# Altium footprint library DemoSchlib.PcbLib: 59 footprints (part 2 of 4)
Each footprint in its own frame and in the unit in brackets; x right, y up, seen from the top. Pads: shape width x height; smd on the part's side, far side on the other; paste and mask are expansions set on the pad; w line width, h text height; cw(c..) or ccw(c..) is an arc to the next point about the centre after c.
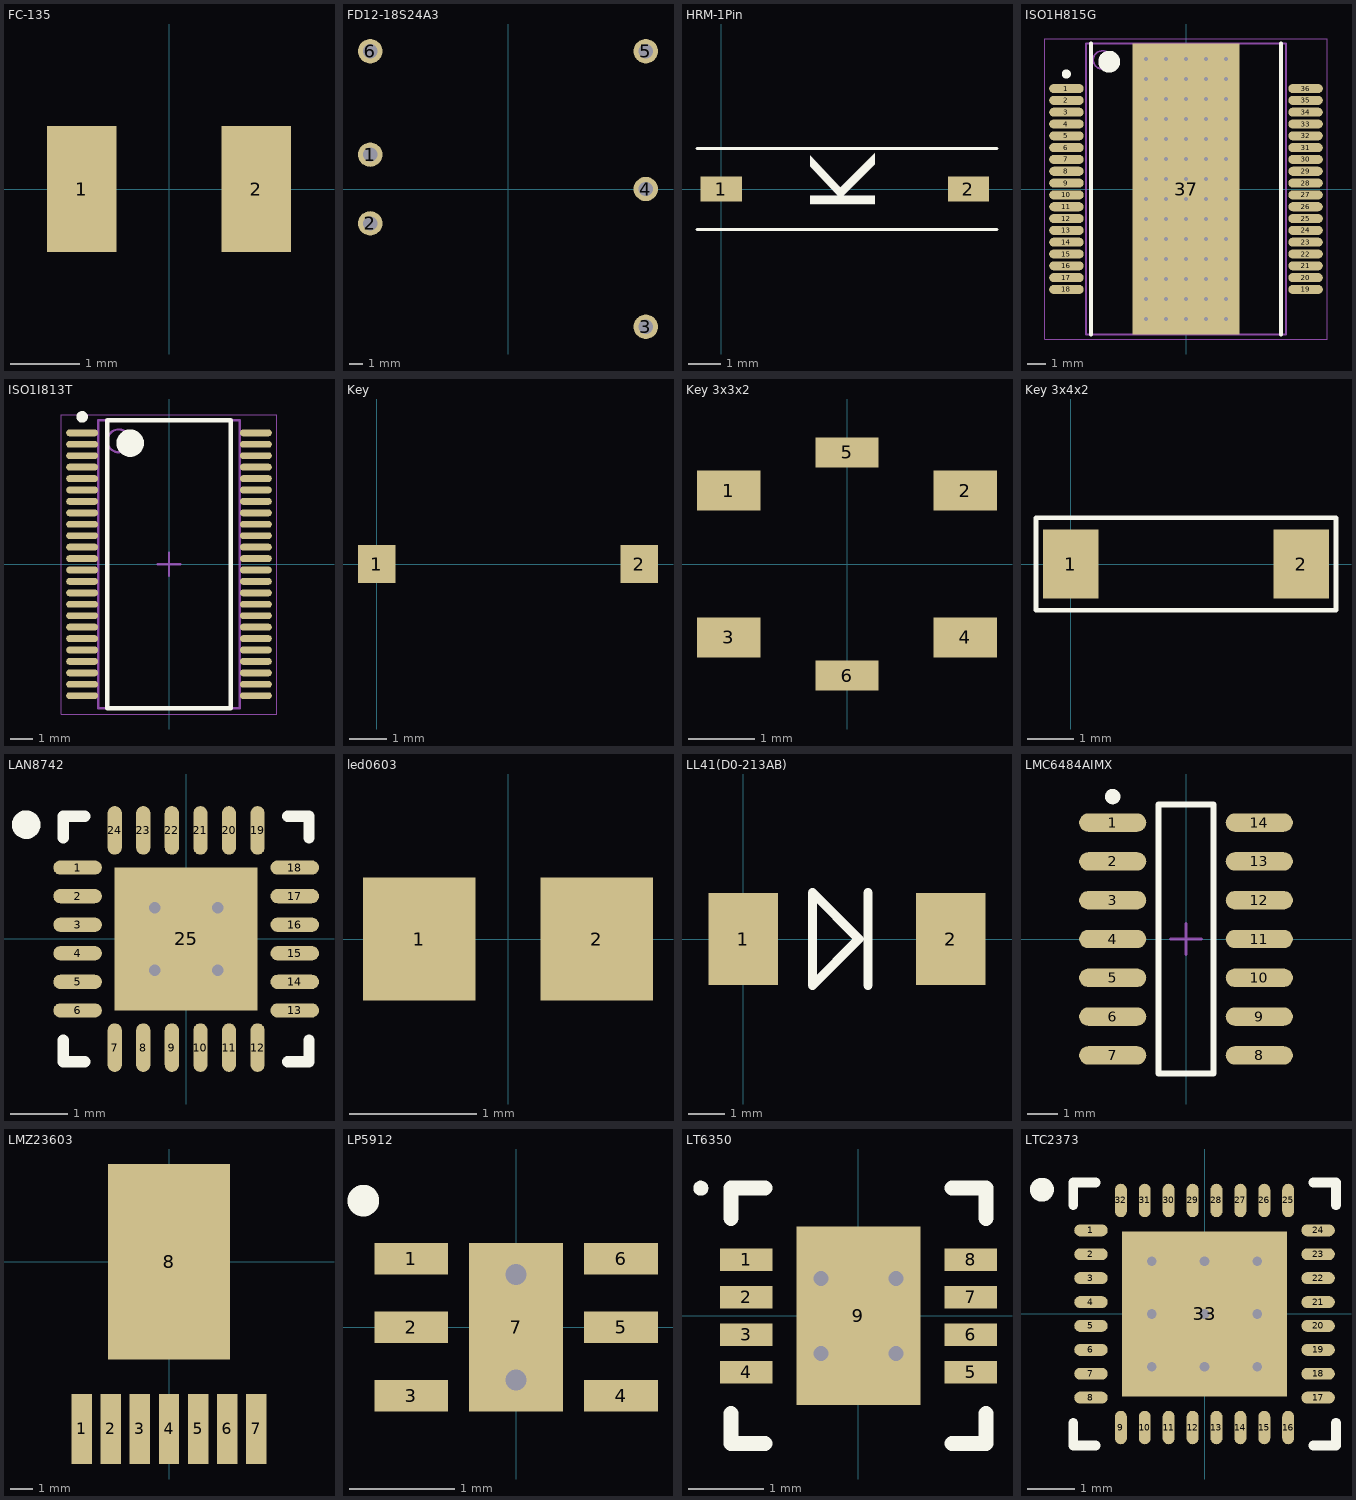
[diagram p1: the footprints below, top view; thin cyan lines are the x and y axes]

## FC-135 [mm]
pads (2):
  rect 1x1.8 smd: 1(-1.25,0) 2(1.25,0)
3D body "FC-135.STEP": height 0.8, standoff 0, extent -1.6,-0.75 1.6,0.75

## FD12-18S24A3 [mm] "DC-DC"
pads (6):
  round 1.8 hole 1.05: 1(-10.16,2.54) 2(-10.16,-2.54) 3(10.16,-10.16) 4(10.16,0) 5(10.16,10.16) 6(-10.16,10.16)
3D body: height 11, standoff 0, extent -12.7,-12.696 12.7,12.697

## HRM-1Pin [mm] "贴片拨码开关1pin"
pads (2):
  rect 1.27x0.76 smd: 1(0,0) 2(7.62,0)
Top Overlay:
  lines w0.1: -0.75,-1.25 8.5,-1.25 ; -0.75,1.25 8.5,1.25
  text "K" at 4.75,-0.75 h2

## ISO1H815G [mm]
pads (37):
  oval 1.9x0.5 smd: 1(-6.575,5.525) 2(-6.575,4.875) 3(-6.575,4.225) 4(-6.575,3.575) 5(-6.575,2.925) 6(-6.575,2.275) 7(-6.575,1.625) 8(-6.575,0.975) 9(-6.575,0.325) 10(-6.575,-0.325) 11(-6.575,-0.975) 12(-6.575,-1.625) 13(-6.575,-2.275) 14(-6.575,-2.925) 15(-6.575,-3.575) 16(-6.575,-4.225) 17(-6.575,-4.875) 18(-6.575,-5.525) 19(6.575,-5.525) 20(6.575,-4.875) 21(6.575,-4.225) 22(6.575,-3.575) 23(6.575,-2.925) 24(6.575,-2.275) 25(6.575,-1.625) 26(6.575,-0.975) 27(6.575,-0.325) 28(6.575,0.325) 29(6.575,0.975) 30(6.575,1.625) 31(6.575,2.275) 32(6.575,2.925) 33(6.575,3.575) 34(6.575,4.225) 35(6.575,4.875) 36(6.575,5.525)
  rect 5.9x16 smd: 37(0,0)
via -2.2,7.15 diameter 0.5 hole 0.2
via -1.1,7.15 diameter 0.5 hole 0.2
via 0,7.15 diameter 0.5 hole 0.2
via 1.1,7.15 diameter 0.5 hole 0.2
via 2.2,7.15 diameter 0.5 hole 0.2
via -2.2,6.05 diameter 0.5 hole 0.2
via -1.1,6.05 diameter 0.5 hole 0.2
via 0,6.05 diameter 0.5 hole 0.2
via 1.1,6.05 diameter 0.5 hole 0.2
via 2.2,6.05 diameter 0.5 hole 0.2
via -2.2,4.95 diameter 0.5 hole 0.2
via -1.1,4.95 diameter 0.5 hole 0.2
via 0,4.95 diameter 0.5 hole 0.2
via 1.1,4.95 diameter 0.5 hole 0.2
via 2.2,4.95 diameter 0.5 hole 0.2
via -2.2,3.85 diameter 0.5 hole 0.2
via -1.1,3.85 diameter 0.5 hole 0.2
via 0,3.85 diameter 0.5 hole 0.2
via 1.1,3.85 diameter 0.5 hole 0.2
via 2.2,3.85 diameter 0.5 hole 0.2
via -2.2,2.75 diameter 0.5 hole 0.2
via -1.1,2.75 diameter 0.5 hole 0.2
via 0,2.75 diameter 0.5 hole 0.2
via 1.1,2.75 diameter 0.5 hole 0.2
via 2.2,2.75 diameter 0.5 hole 0.2
via -2.2,1.65 diameter 0.5 hole 0.2
via -1.1,1.65 diameter 0.5 hole 0.2
via 0,1.65 diameter 0.5 hole 0.2
via 1.1,1.65 diameter 0.5 hole 0.2
via 2.2,1.65 diameter 0.5 hole 0.2
via -2.2,0.55 diameter 0.5 hole 0.2
via -1.1,0.55 diameter 0.5 hole 0.2
via 0,0.55 diameter 0.5 hole 0.2
via 1.1,0.55 diameter 0.5 hole 0.2
via 2.2,0.55 diameter 0.5 hole 0.2
via -2.2,-0.55 diameter 0.5 hole 0.2
via -1.1,-0.55 diameter 0.5 hole 0.2
via 0,-0.55 diameter 0.5 hole 0.2
via 1.1,-0.55 diameter 0.5 hole 0.2
via 2.2,-0.55 diameter 0.5 hole 0.2
via -2.2,-1.65 diameter 0.5 hole 0.2
via -1.1,-1.65 diameter 0.5 hole 0.2
via 0,-1.65 diameter 0.5 hole 0.2
via 1.1,-1.65 diameter 0.5 hole 0.2
via 2.2,-1.65 diameter 0.5 hole 0.2
via -2.2,-2.75 diameter 0.5 hole 0.2
via -1.1,-2.75 diameter 0.5 hole 0.2
via 0,-2.75 diameter 0.5 hole 0.2
via 1.1,-2.75 diameter 0.5 hole 0.2
via 2.2,-2.75 diameter 0.5 hole 0.2
via -2.2,-3.85 diameter 0.5 hole 0.2
via -1.1,-3.85 diameter 0.5 hole 0.2
via 0,-3.85 diameter 0.5 hole 0.2
via 1.1,-3.85 diameter 0.5 hole 0.2
via 2.2,-3.85 diameter 0.5 hole 0.2
via -2.2,-4.95 diameter 0.5 hole 0.2
via -1.1,-4.95 diameter 0.5 hole 0.2
via 0,-4.95 diameter 0.5 hole 0.2
via 1.1,-4.95 diameter 0.5 hole 0.2
via 2.2,-4.95 diameter 0.5 hole 0.2
via -2.2,-6.05 diameter 0.5 hole 0.2
via -1.1,-6.05 diameter 0.5 hole 0.2
via 0,-6.05 diameter 0.5 hole 0.2
via 1.1,-6.05 diameter 0.5 hole 0.2
via 2.2,-6.05 diameter 0.5 hole 0.2
via -2.2,-7.15 diameter 0.5 hole 0.2
via -1.1,-7.15 diameter 0.5 hole 0.2
via 0,-7.15 diameter 0.5 hole 0.2
via 1.1,-7.15 diameter 0.5 hole 0.2
via 2.2,-7.15 diameter 0.5 hole 0.2
Top Overlay:
  circle w0.25: c-6.575,6.325 r0.125
  circle w0.6: c-4.225,7 r0.3
  lines w0.2: -5.225,-8 -5.225,8 ; 5.225,-8 5.225,8
Mechanical 13:
  circle w0.1: c-4.6,7.1 r0.5
  lines w0.1: -5.5,-8 -5.5,8 5.5,8 5.5,-8 -5.5,-8
Mechanical 15:
  lines w0.05: -7.775,-8.25 -7.775,8.25 7.775,8.25 7.775,-8.25 -7.775,-8.25
  lines w0.1: -0.5,0 0.5,0 ; 0,-0.5 0,0.5
3D body "SOP65P1420X350_HS-37N.step": height 3.5, standoff 0, extent -7.1,-8 7.1,8

## ISO1I813T [mm]
pads (48):
  oval 1.4x0.3 smd: 1(-3.8,5.75) 2(-3.8,5.25) 3(-3.8,4.75) 4(-3.8,4.25) 5(-3.8,3.75) 6(-3.8,3.25) 7(-3.8,2.75) 8(-3.8,2.25) 9(-3.8,1.75) 10(-3.8,1.25) 11(-3.8,0.75) 12(-3.8,0.25) 13(-3.8,-0.25) 14(-3.8,-0.75) 15(-3.8,-1.25) 16(-3.8,-1.75) 17(-3.8,-2.25) 18(-3.8,-2.75) 19(-3.8,-3.25) 20(-3.8,-3.75) 21(-3.8,-4.25) 22(-3.8,-4.75) 23(-3.8,-5.25) 24(-3.8,-5.75) 25(3.8,-5.75) 26(3.8,-5.25) 27(3.8,-4.75) 28(3.8,-4.25) 29(3.8,-3.75) 30(3.8,-3.25) 31(3.8,-2.75) 32(3.8,-2.25) 33(3.8,-1.75) 34(3.8,-1.25) 35(3.8,-0.75) 36(3.8,-0.25) 37(3.8,0.25) 38(3.8,0.75) 39(3.8,1.25) 40(3.8,1.75) 41(3.8,2.25) 42(3.8,2.75) 43(3.8,3.25) 44(3.8,3.75) 45(3.8,4.25) 46(3.8,4.75) 47(3.8,5.25) 48(3.8,5.75)
Top Overlay:
  circle w0.6: c-1.7,5.3 r0.3
  circle w0.25: c-3.8,6.45 r0.125
  lines w0.2: -2.7,-6.3 2.7,-6.3 2.7,6.3 -2.7,6.3 -2.7,-6.3
Mechanical 13:
  circle w0.1: c-2.2,5.4 r0.5
  lines w0.1: -3.1,-6.3 3.1,-6.3 3.1,6.3 -3.1,6.3 -3.1,-6.3
Mechanical 15:
  lines w0.05: -4.725,-6.55 4.725,-6.55 4.725,6.55 -4.725,6.55 -4.725,-6.55
  lines w0.1: -0.5,0 0.5,0 ; 0,-0.5 0,0.5
3D body "TSSOP50P810X110-48N.step": height 1.1, standoff 0, extent -4.05,-6.3 4.05,6.3

## Key [mm] "轻触开关"
pads (2):
  rect 1x1 smd: 1(0,0) 2(7,0)
3D body "switch.step": height 4.5, standoff -0.01, extent -1,-1.75 8,1.75

## Key 3x3x2 [mm]
pads (6):
  rect 0.95x0.6 smd: 1(-1.775,1.1) 2(1.775,1.1) 3(-1.775,-1.1) 4(1.775,-1.1)
  rect 0.95x0.45 smd: 5(0,1.675) 6(0,-1.675)

## Key 3x4x2 [mm]
pads (2):
  rect 1.2x1.5 smd: 1(0,0) 2(5,0)
Top Overlay:
  lines w0.1: -0.75,-1 5.75,-1 5.75,1 -0.75,1 -0.75,-1

## LAN8742 [mm]
height 1
pads (25):
  oval 0.85x0.25 smd: 1(-1.9,1.25) 2(-1.9,0.75) 3(-1.9,0.25) 4(-1.9,-0.25) 5(-1.9,-0.75) 6(-1.9,-1.25) 13(1.9,-1.25) 14(1.9,-0.75) 15(1.9,-0.25) 16(1.9,0.25) 17(1.9,0.75) 18(1.9,1.25)
  oval 0.25x0.85 smd: 7(-1.25,-1.9) 8(-0.75,-1.9) 9(-0.25,-1.9) 10(0.25,-1.9) 11(0.75,-1.9) 12(1.25,-1.9) 19(1.25,1.9) 20(0.75,1.9) 21(0.25,1.9) 22(-0.25,1.9) 23(-0.75,1.9) 24(-1.25,1.9)
  rect 2.5x2.5 smd: 25(0,0)
via 0.55,-0.55 diameter 0.5 hole 0.2
via -0.55,-0.55 diameter 0.5 hole 0.2
via 0.55,0.55 diameter 0.5 hole 0.2
via -0.55,0.55 diameter 0.5 hole 0.2
Top Overlay:
  circle w0.25: c-2.8,2 r0.125
  lines w0.2: -2.15,-1.775 -2.15,-2.15 -1.775,-2.15 ; -2.15,1.775 -2.15,2.15 -1.775,2.15 ; 1.775,-2.15 2.15,-2.15 2.15,-1.775 ; 1.775,2.15 2.15,2.15 2.15,1.775
3D body: height 1, standoff 0, extent -2,-2 2,2

## led0603 [mil]
pads (2):
  rect 35x38 smd: 1(-27.5,0) 2(27.5,0)
3D body "led0603.STEP": height 23.62, standoff 0, extent -31.89,-15.74 31.9,15.75

## LL41(D0-213AB) [mm]
pads (2):
  rect 1.9x2.54 smd: 1(0,0) 2(5.7,0)
Top Overlay:
  lines w0.254: 3.429,-1.27 3.429,1.27 ; 1.905,-1.27 3.175,0 1.905,1.27 1.905,-1.27
3D body "User Library-Vishay - MELF DO-213AB.STEP": height 2.64, standoff -0.04, extent 0.296,-1.321 5.496,1.349

## LMC6484AIMX [mm] "SOIC, 14-Leads, Body 8.65x3.90mm, Pitch 1.27mm, IPC Medium Density"
height 1.75
pads (14):
  oval 2.2x0.6 smd: 1(-2.4,3.81) 2(-2.4,2.54) 3(-2.4,1.27) 4(-2.4,0) 5(-2.4,-1.27) 6(-2.4,-2.54) 7(-2.4,-3.81) 8(2.4,-3.81) 9(2.4,-2.54) 10(2.4,-1.27) 11(2.4,0) 12(2.4,1.27) 13(2.4,2.54) 14(2.4,3.81)
Top Overlay:
  circle w0.25: c-2.4,4.66 r0.125
  lines w0.2: -0.9,-4.4 0.9,-4.4 0.9,4.4 -0.9,4.4 -0.9,-4.4
Mechanical 15:
  lines w0.1: -0.5,0 0.5,0 ; 0,-0.5 0,0.5
3D body: height 1.75, standoff 0.1, extent -2,-4.4 2,4.4

## LMZ23603 [mm]
pads (8):
  rect 0.89x3.06 smd: 1(-3.81,-7.305) 2(-2.54,-7.305) 3(-1.27,-7.305) 4(0,-7.305) 5(1.27,-7.305) 6(2.54,-7.305) 7(3.81,-7.305)
  rect 5.35x8.54 smd paste+0: 8(0,0)
3D body "LMZ23603.stp": height 4.82, standoff 0.05, extent -5.08,-8.445 5.08,5.325

## LP5912 [mm] "SON, 6-Leads, Body 2.00x2.00mm, Pitch 0.65mm, Thermal Pad 1.60x0.89mm, IPC Medium Density"
height 0.8
pads (7):
  rect 0.7x0.3 smd: 1(-0.995,0.65) 2(-0.995,0) 3(-0.995,-0.65) 4(0.995,-0.65) 5(0.995,0) 6(0.995,0.65)
  rect 0.89x1.6 smd: 7(0,0)
via 0,-0.5 diameter 0.5 hole 0.2
via 0,0.5 diameter 0.5 hole 0.2
Top Overlay:
  circle w0.2: c-1.45,1.2 r0.05
3D body "LP5912.stp": height 0.8, standoff 0, extent -1,-1 1,1

## LT6350 [mm] "DFN8Pin"
height 0.8
pads (9):
  rect 0.7x0.3 smd: 1(-1.495,0.75) 2(-1.495,0.25) 3(-1.495,-0.25) 4(-1.495,-0.75) 5(1.495,-0.75) 6(1.495,-0.25) 7(1.495,0.25) 8(1.495,0.75)
  rect 1.65x2.38 smd: 9(0,0)
via -0.5,0.5 diameter 0.5 hole 0.2
via 0.5,0.5 diameter 0.5 hole 0.2
via -0.5,-0.5 diameter 0.5 hole 0.2
via 0.5,-0.5 diameter 0.5 hole 0.2
Top Overlay:
  circle w0.1: c-2.1,1.7 r0.05
  lines w0.2: -1.7,-1.3 -1.7,-1.7 -1.245,-1.7 ; -1.7,1.3 -1.7,1.7 -1.245,1.7 ; 1.245,-1.7 1.7,-1.7 1.7,-1.3 ; 1.245,1.7 1.7,1.7 1.7,1.3
3D body: height 0.8, standoff 0, extent -1.55,-1.55 1.55,1.55

## LTC2373 [mm]
height 0.8
pads (33):
  oval 0.7x0.25 smd: 1(-2.375,1.75) 2(-2.375,1.25) 3(-2.375,0.75) 4(-2.375,0.25) 5(-2.375,-0.25) 6(-2.375,-0.75) 7(-2.375,-1.25) 8(-2.375,-1.75) 17(2.375,-1.75) 18(2.375,-1.25) 19(2.375,-0.75) 20(2.375,-0.25) 21(2.375,0.25) 22(2.375,0.75) 23(2.375,1.25) 24(2.375,1.75)
  oval 0.25x0.7 smd: 9(-1.75,-2.375) 10(-1.25,-2.375) 11(-0.75,-2.375) 12(-0.25,-2.375) 13(0.25,-2.375) 14(0.75,-2.375) 15(1.25,-2.375) 16(1.75,-2.375) 25(1.75,2.375) 26(1.25,2.375) 27(0.75,2.375) 28(0.25,2.375) 29(-0.25,2.375) 30(-0.75,2.375) 31(-1.25,2.375) 32(-1.75,2.375)
  rect 3.45x3.45 smd: 33(0,0)
via -1.1,1.1 diameter 0.5 hole 0.2
via 0,1.1 diameter 0.5 hole 0.2
via 1.1,1.1 diameter 0.5 hole 0.2
via -1.1,0 diameter 0.5 hole 0.2
via 0,0 diameter 0.5 hole 0.2
via 1.1,0 diameter 0.5 hole 0.2
via -1.1,-1.1 diameter 0.5 hole 0.2
via 0,-1.1 diameter 0.5 hole 0.2
via 1.1,-1.1 diameter 0.5 hole 0.2
Top Overlay:
  circle w0.25: c-3.4,2.6 r0.125
  lines w0.2: -2.75,-2.275 -2.75,-2.75 -2.275,-2.75 ; -2.75,2.275 -2.75,2.75 -2.275,2.75 ; 2.275,-2.75 2.75,-2.75 2.75,-2.275 ; 2.275,2.75 2.75,2.75 2.75,2.275
3D body: height 0.8, standoff 0, extent -2.55,-2.55 2.55,2.55